# EAGLE library part MIDI (library F030NG)
DIN connector, female, 5pin, PCB mount 5 pins 90 deg. with shield, horizontal (DIN 41524)
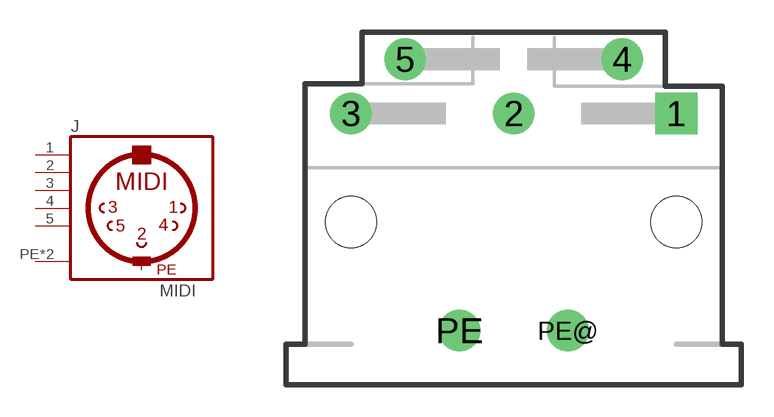
[diagram p20: symbol with the pads of MAB5SH; footprint MAB5SH]

Designator prefix J

## MIDI (OC_FARNELL: 809883; OC_NEWARK: unknown)  [MAB5SH]
1  1  pas
2  2  pas
3  3  pas
4  4  pas
5  5  pas
PE  PE  pas
PE@  PE  pas

## Footprint MAB5SH (pad centres in mm)
Female CONNECTOR 5 pins 90 deg. with shield, horizontal (DIN 41524)
drill 1.3 square: 1 7.62,5.08
drill 1.3: 2 0,5.08; 3 -7.62,5.08; 4 5.08,7.62; 5 -5.08,7.62; PE -2.54,-5.08; PE@ 2.54,-5.08
hole 2.4 at 7.62,0
hole 2.4 at -7.62,0